# Altium footprint library ICs.PcbLib: 109 footprints (part 3 of 7)
Each footprint in its own frame and in the unit in brackets; x right, y up, seen from the top. Pads: shape width x height; smd on the part's side, far side on the other; paste and mask are expansions set on the pad; w line width, h text height; cw(c..) or ccw(c..) is an arc to the next point about the centre after c.
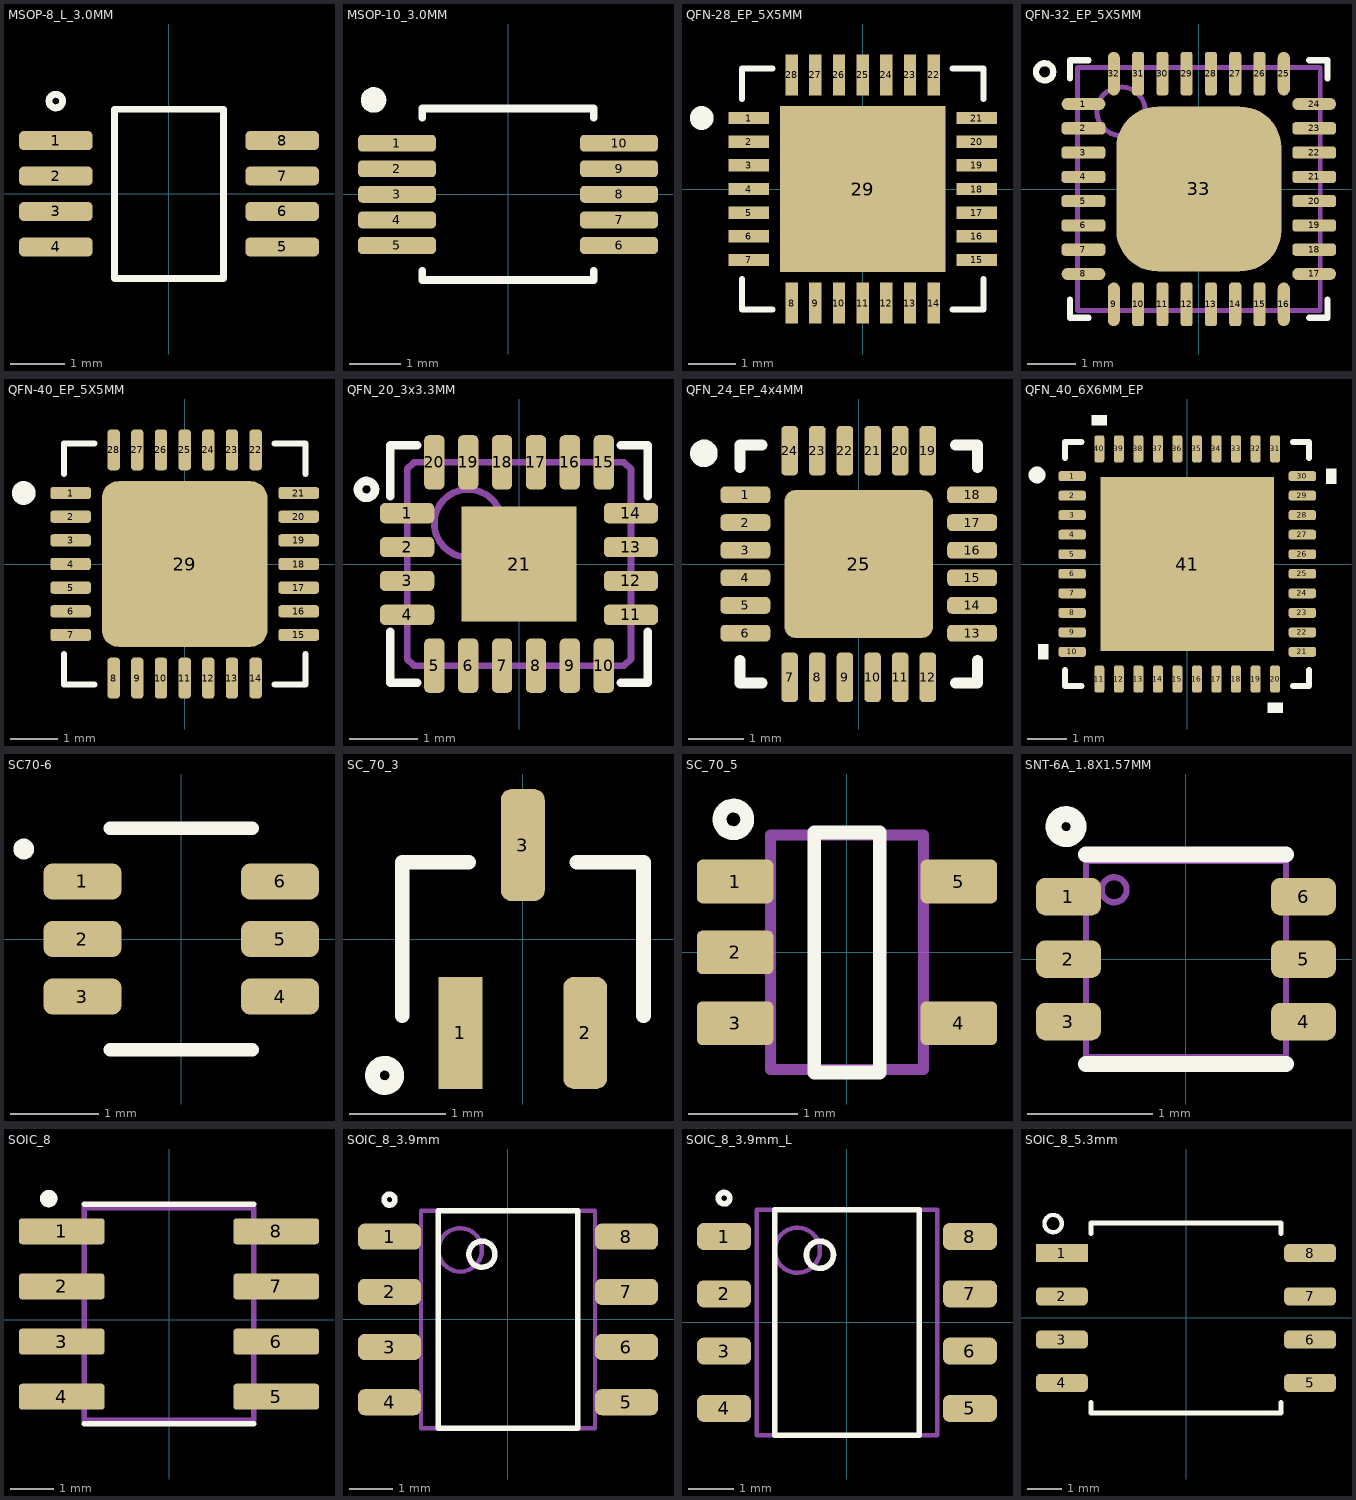
[diagram p2: the footprints below, top view; thin cyan lines are the x and y axes]

## MSOP-8_L_3.0MM [mm] "8-VSSOP, 8-TSSOP /  20191119/J-P.Vargas.A"
pads (8):
  rrect50% 1.35x0.35 smd: 1(-2.075,0.975) 2(-2.075,0.325) 3(-2.075,-0.325) 4(-2.075,-0.975) 5(2.075,-0.975) 6(2.075,-0.325) 7(2.075,0.325) 8(2.075,0.975)
Top Overlay:
  circle w0.127: c-2.075,1.7 r0.125
  lines w0.127: -1,-1.55 -1,1.55 1,1.55 1,-1.55 -1,-1.55
3D body: height 1.1, standoff 0.05, extent -1.55,-1.55 1.55,1.55

## MSOP-10_3.0MM [mil] "20221118/J-A.Sepulveda"
pads (10):
  rrect50% 60x13 smd: 1(-85.5,39.37) 2(-85.5,19.68) 3(-85.5,0) 4(-85.5,-19.68) 5(-85.5,-39.37) 6(85.5,-39.37) 7(85.5,-19.68) 8(85.5,0) 9(85.5,19.68) 10(85.5,39.37)
Top Overlay:
  circle w9.84: c-103.53,72.65 r4.92
  lines w6: -66,-58.97 -66,-66 66,-66 66,-58.97 ; -66,58.97 -66,66 66,66 66,58.97
3D body "RM_10_ADI.step": height 43.11, standoff 0, extent -101.5,-60.98 101.5,60.98

## QFN-28_EP_5X5MM [mm] "20210806/M-C.Calderon"
pads (29):
  rect 0.86x0.26 smd: 1(-2.41,1.5) 2(-2.41,1) 3(-2.41,0.5) 4(-2.41,0) 5(-2.41,-0.5) 6(-2.41,-1) 7(-2.41,-1.5) 15(2.41,-1.5) 16(2.41,-1) 17(2.41,-0.5) 18(2.41,0) 19(2.41,0.5) 20(2.41,1) 21(2.41,1.5)
  rect 0.26x0.86 smd: 8(-1.5,-2.41) 9(-1,-2.41) 10(-0.5,-2.41) 11(0,-2.41) 12(0.5,-2.41) 13(1,-2.41) 14(1.5,-2.41) 22(1.5,2.41) 23(1,2.41) 24(0.5,2.41) 25(0,2.41) 26(-0.5,2.41) 27(-1,2.41) 28(-1.5,2.41)
  rect 3.5x3.5 smd paste-3: 29(0,0)
Top Overlay:
  circle w0.3: c-3.4,1.5 r0.1
  lines w0.127: -2.55,-1.9 -2.55,-2.55 -1.9,-2.55 ; -2.55,1.9 -2.55,2.55 -1.9,2.55 ; 1.9,-2.55 2.55,-2.55 2.55,-1.9 ; 1.9,2.55 2.55,2.55 2.55,1.9
Top Paste:
  region: 1.41,-1.41 0.17,-1.41 0.17,-0.17 1.41,-0.17
  region: -0.17,-1.41 -1.41,-1.41 -1.41,-0.17 -0.17,-0.17
  region: -0.17,0.17 -1.41,0.17 -1.41,1.41 -0.17,1.41
  region: 1.41,0.17 0.17,0.17 0.17,1.41 1.41,1.41
3D body "User Library-QFN28.step": height 0.91, standoff 0.01, extent -2.52,-2.52 2.52,2.52

## QFN-32_EP_5X5MM [mm] "32-VFQFN Exposed Pad/20200714/N-A.Potosi"
pads (33):
  oval 0.9x0.25 smd: 1(-2.375,1.75) 8(-2.375,-1.75) 17(2.375,-1.75) 24(2.375,1.75)
  rrect50% 0.9x0.25 smd: 2(-2.375,1.25) 3(-2.375,0.75) 4(-2.375,0.25) 5(-2.375,-0.25) 6(-2.375,-0.75) 7(-2.375,-1.25) 18(2.375,-1.25) 19(2.375,-0.75) 20(2.375,-0.25) 21(2.375,0.25) 22(2.375,0.75) 23(2.375,1.25)
  oval 0.25x0.9 smd: 9(-1.75,-2.375) 16(1.75,-2.375) 25(1.75,2.375) 32(-1.75,2.375)
  rrect50% 0.25x0.9 smd: 10(-1.25,-2.375) 11(-0.75,-2.375) 12(-0.25,-2.375) 13(0.25,-2.375) 14(0.75,-2.375) 15(1.25,-2.375) 26(1.25,2.375) 27(0.75,2.375) 28(0.25,2.375) 29(-0.25,2.375) 30(-0.75,2.375) 31(-1.25,2.375)
  rrect50% 3.4x3.4 smd: 33(0,0)
Top Overlay:
  circle w0.127: c-3.175,2.413 r0.178
  lines w0.127: -2.65,-2.275 -2.65,-2.65 -2.275,-2.65 ; -2.65,2.275 -2.65,2.65 -2.275,2.65 ; 2.275,-2.65 2.65,-2.65 2.65,-2.275 ; 2.275,2.65 2.65,2.65 2.65,2.275
Mechanical 1:
  circle w0.1: c-1.6,1.6 r0.5
  lines w0.1: -2.5,-2.5 2.5,-2.5 2.5,2.5 -2.5,2.5 -2.5,-2.5
3D body: height 1, standoff 0.01, extent -2.5,-2.5 2.5,2.5

## QFN-40_EP_5X5MM [mm] "20210806/M-C.Calderon"
pads (29):
  rrect50% 0.86x0.26 smd: 1(-2.41,1.5) 2(-2.41,1) 3(-2.41,0.5) 4(-2.41,0) 5(-2.41,-0.5) 6(-2.41,-1) 7(-2.41,-1.5) 15(2.41,-1.5) 16(2.41,-1) 17(2.41,-0.5) 18(2.41,0) 19(2.41,0.5) 20(2.41,1) 21(2.41,1.5)
  rrect50% 0.26x0.86 smd: 8(-1.5,-2.41) 9(-1,-2.41) 10(-0.5,-2.41) 11(0,-2.41) 12(0.5,-2.41) 13(1,-2.41) 14(1.5,-2.41) 22(1.5,2.41) 23(1,2.41) 24(0.5,2.41) 25(0,2.41) 26(-0.5,2.41) 27(-1,2.41) 28(-1.5,2.41)
  rrect20% 3.5x3.5 smd paste-3: 29(0,0)
Top Overlay:
  circle w0.3: c-3.4,1.5 r0.1
  lines w0.127: -2.55,-1.9 -2.55,-2.55 -1.9,-2.55 ; -2.55,1.9 -2.55,2.55 -1.9,2.55 ; 1.9,-2.55 2.55,-2.55 2.55,-1.9 ; 1.9,2.55 2.55,2.55 2.55,1.9
Top Paste:
  region: 1.41,-1.41 0.17,-1.41 0.17,-0.17 1.41,-0.17
  region: -0.17,-1.41 -1.41,-1.41 -1.41,-0.17 -0.17,-0.17
  region: -0.17,0.17 -1.41,0.17 -1.41,1.41 -0.17,1.41
  region: 1.41,0.17 0.17,0.17 0.17,1.41 1.41,1.41
3D body "User Library-QFN28.step": height 0.91, standoff 0.01, extent -2.52,-2.52 2.52,2.52

## QFN_20_3x3.3MM [mm] "/20200727/M-C.Calderon"
height 0.9
pads (21):
  rrect50% 0.8x0.3 smd paste-0.051 mask+0.05: 1(-1.65,0.75) 2(-1.65,0.25) 3(-1.65,-0.25) 4(-1.65,-0.75) 11(1.65,-0.75) 12(1.65,-0.25) 13(1.65,0.25) 14(1.65,0.75)
  rrect50% 0.3x0.8 smd paste-0.051 mask+0.05: 5(-1.25,-1.5) 6(-0.75,-1.5) 7(-0.25,-1.5) 8(0.25,-1.5) 9(0.75,-1.5) 10(1.25,-1.5) 15(1.25,1.5) 16(0.75,1.5) 17(0.25,1.5) 18(-0.25,1.5) 19(-0.75,1.5) 20(-1.25,1.5)
  rect 1.7x1.7 smd paste-0.178 mask+0.05: 21(0,0)
Top Overlay:
  circle w0.127: c-2.25,1.1 r0.125
  lines w0.127: -1.9,-1 -1.9,-1.75 -1.5,-1.75 ; -1.9,1 -1.9,1.75 -1.5,1.75 ; 1.5,-1.75 1.9,-1.75 1.9,-1 ; 1.5,1.75 1.9,1.75 1.9,1
Mechanical 1:
  circle w0.1: c-0.75,0.6 r0.5
  lines w0.1: -1.65,-1.4 -1.55,-1.5 1.55,-1.5 1.65,-1.4 1.65,1.4 1.55,1.5 -1.55,1.5 -1.65,1.4 -1.65,-1.4
3D body: height 0.9, standoff 0.1, extent -1.65,-1.5 1.65,1.5

## QFN_24_EP_4x4MM [mm] "24-WFQFN_EP/20210809/V-A.Patino"
height 0.8
pads (25):
  rrect50% 0.9x0.3 smd: 1(-2.05,1.25) 2(-2.05,0.75) 3(-2.05,0.25) 4(-2.05,-0.25) 5(-2.05,-0.75) 6(-2.05,-1.25) 13(2.05,-1.25) 14(2.05,-0.75) 15(2.05,-0.25) 16(2.05,0.25) 17(2.05,0.75) 18(2.05,1.25)
  rrect50% 0.3x0.9 smd: 7(-1.25,-2.05) 8(-0.75,-2.05) 9(-0.25,-2.05) 10(0.25,-2.05) 11(0.75,-2.05) 12(1.25,-2.05) 19(1.25,2.05) 20(0.75,2.05) 21(0.25,2.05) 22(-0.25,2.05) 23(-0.75,2.05) 24(-1.25,2.05)
  rrect15% 2.68x2.68 smd: 25(0,0)
Top Overlay:
  circle w0.25: c-2.8,2 r0.125
  lines w0.2: -2.15,-1.75 -2.15,-2.15 -1.75,-2.15 ; -2.15,1.75 -2.15,2.15 -1.75,2.15 ; 1.75,-2.15 2.15,-2.15 2.15,-1.75 ; 1.75,2.15 2.15,2.15 2.15,1.75
3D body: height 0.8, standoff 0, extent -2,-2 2,2

## QFN_40_6X6MM_EP [mm] "20220422 / E.Naranjo"
pads (41):
  rrect50% 0.7x0.254 smd: 1(-2.946,2.25) 2(-2.946,1.75) 3(-2.946,1.25) 4(-2.946,0.75) 5(-2.946,0.25) 6(-2.946,-0.25) 7(-2.946,-0.75) 8(-2.946,-1.25) 9(-2.946,-1.75) 10(-2.946,-2.25) 21(2.946,-2.25) 22(2.946,-1.75) 23(2.946,-1.25) 24(2.946,-0.75) 25(2.946,-0.25) 26(2.946,0.25) 27(2.946,0.75) 28(2.946,1.25) 29(2.946,1.75) 30(2.946,2.25)
  rrect50% 0.254x0.7 smd: 11(-2.25,-2.946) 12(-1.75,-2.946) 13(-1.25,-2.946) 14(-0.75,-2.946) 15(-0.25,-2.946) 16(0.25,-2.946) 17(0.75,-2.946) 18(1.25,-2.946) 19(1.75,-2.946) 20(2.25,-2.946) 31(2.25,2.946) 32(1.75,2.946) 33(1.25,2.946) 34(0.75,2.946) 35(0.25,2.946) 36(-0.25,2.946) 37(-0.75,2.946) 38(-1.25,2.946) 39(-1.75,2.946) 40(-2.25,2.946)
  rect 4.445x4.445 smd paste-2.21 mask+0: 41(0,0)
Top Overlay:
  circle w0.381: c-3.846,2.281 r0.025
  region: -3.556,-2.06 -3.81,-2.06 -3.81,-2.441 -3.556,-2.441
  region: 2.441,-3.556 2.06,-3.556 2.06,-3.81 2.441,-3.81
  region: 3.556,2.441 3.81,2.441 3.81,2.06 3.556,2.06
  region: -2.06,3.556 -2.441,3.556 -2.441,3.81 -2.06,3.81
  lines w0.152: -3.124,-2.71 -3.124,-3.124 -2.71,-3.124 ; -3.124,2.71 -3.124,3.124 -2.71,3.124 ; 2.71,-3.124 3.124,-3.124 3.124,-2.71 ; 2.71,3.124 3.124,3.124 3.124,2.71
Top Paste:
  region: -0.841,2.123 -2.123,2.123 -2.123,0.841 -0.841,0.841
  region: -0.841,0.641 -2.123,0.641 -2.123,-0.641 -0.841,-0.641
  region: -0.841,-0.841 -2.123,-0.841 -2.123,-2.123 -0.841,-2.123
  region: 0.641,2.123 -0.641,2.123 -0.641,0.841 0.641,0.841
  region: 0.641,0.641 -0.641,0.641 -0.641,-0.641 0.641,-0.641
  region: 0.641,-0.841 -0.641,-0.841 -0.641,-2.123 0.641,-2.123
  region: 2.123,2.123 0.841,2.123 0.841,0.841 2.123,0.841
  region: 2.123,0.641 0.841,0.641 0.841,-0.641 2.123,-0.641
  region: 2.123,-0.841 0.841,-0.841 0.841,-2.123 2.123,-2.123
3D body "QFN40_6x6MC_MCH.step": height 1, standoff 0, extent -2.997,-2.997 2.997,2.997

## SC70-6 [mil] "TSSOP6 SC-88 SOT-363 / 20220519 / E.Naranjo"
pads (6):
  rrect50% 34.67x16 smd: 1(-43.91,25.59) 2(-43.91,0) 3(-43.91,-25.59) 4(43.91,-25.59) 5(43.91,0) 6(43.91,25.59)
Top Overlay:
  circle w5: c-70,40 r2.14
  lines w6: -31.57,-49.29 31.57,-49.29 ; -31.57,49.29 31.57,49.29
3D body "SC70-6_MC_MCH.step": height 43.43, standoff 0, extent -47.24,-44.29 47.25,44.29

## SC_70_3 [mil] "SOT-323 / 20230810/ N-A.Potosi"
height 43.31
pads (3):
  rect 18x46 smd: 1(-25.59,-38.5)
  rrect50% 18x46 smd: 2(25.59,-38.5) 3(0,38.5)
Top Overlay:
  circle w6: c-56.66,-55.93 r5
  lines w6: -49.5,-31.5 -49.5,31.5 -22.1,31.5 ; 22.1,31.5 49.5,31.5 49.5,-31.5
3D body "SC-70_C3_MCH.step": height 43.11, standoff 0, extent -44.49,-47.52 44.49,47.52

## SC_70_5 [mm] "SC-70-5, TSSOP-5, SOT-353 / 20190225 / C-A.Serna.A"
height 1.1
pads (5):
  rrect25% 0.7x0.4 smd: 1(-1.025,0.65) 2(-1.025,0) 3(-1.025,-0.65) 4(1.025,-0.65) 5(1.025,0.65)
Top Overlay:
  circle w0.127: c-1.041,1.219 r0.127
  lines w0.127: -0.3,-1.1 0.3,-1.1 0.3,1.1 -0.3,1.1 -0.3,-1.1
Mechanical 1:
  lines w0.1: -0.7,-1.075 0.7,-1.075 0.7,1.075 -0.7,1.075 -0.7,-1.075
3D body "DCK0005AakaMAA05A.stp": height 0.94, standoff -0.01, extent -1.14,-1 1.14,1

## SNT-6A_1.8X1.57MM [mm] "20220103 / A-F.Romo"
pads (6):
  rrect50% 0.52x0.3 smd: 1(-0.94,0.5) 2(-0.94,0) 3(-0.94,-0.5) 4(0.94,-0.5) 5(0.94,0) 6(0.94,0.5)
Top Overlay:
  circle w0.127: c-0.96,1.06 r0.1
  lines w0.127: -0.8,-0.838 0.8,-0.838 ; -0.8,0.838 0.8,0.838
Mechanical 1:
  circle w0.05: c-0.575,0.555 r0.1
  lines w0.05: -0.8,-0.785 0.8,-0.785 0.8,0.785 -0.8,0.785 -0.8,-0.785
3D body "S-8471AAA-I6T1U.stp": height 0.5, standoff 0, extent -0.9,-0.785 0.9,0.785

## SOIC_8 [mm] "/ 20190225 / C-A.Serna.A"
pads (8):
  rrect25% 1.97x0.6 smd: 1(-2.47,2.032) 2(-2.47,0.762) 3(-2.47,-0.508) 4(-2.47,-1.778) 5(2.47,-1.778) 6(2.47,-0.508) 7(2.47,0.762) 8(2.47,2.032)
Top Overlay:
  circle w0.2: c-2.771,2.785 r0.1
  lines w0.127: -1.95,-2.398 1.95,-2.398 ; -1.95,2.652 1.95,2.652
Mechanical 13:
  circle w0.2: c-2.771,2.785 r0.1
  lines w0.127: -1.95,-2.325 -1.95,2.579 1.95,2.579 1.95,-2.325 -1.95,-2.325
3D body "LM358BAIDR.STEP": height 1.75, standoff 0, extent -3.041,-2.314 2.953,2.588

## SOIC_8_3.9mm [mm] "/ 20190225 / C-A.Serna.A"
pads (8):
  rrect50% 1.45x0.6 smd: 1(-2.725,1.905) 2(-2.725,0.635) 3(-2.725,-0.635) 4(-2.725,-1.905) 5(2.725,-1.905) 6(2.725,-0.635) 7(2.725,0.635) 8(2.725,1.905)
Top Overlay:
  circle w0.127: c-2.725,2.755 r0.125
  circle w0.127: c-0.6,1.5 r0.3
  lines w0.127: -1.6,-2.5 -1.6,2.5 1.6,2.5 1.6,-2.5 -1.6,-2.5
Mechanical 1:
  circle w0.1: c-1.1,1.6 r0.5
  lines w0.1: -2,-2.5 2,-2.5 2,2.5 -2,2.5 -2,-2.5
3D body "SOIC127P600X173-8N.step": height 1.73, standoff 0, extent -3.01,-2.5 3.01,2.5

## SOIC_8_3.9mm_L [mm] "/ 20190702 / J-P.Vargas.A"
pads (8):
  rrect50% 1.2x0.6 smd: 1(-2.725,1.905) 2(-2.725,0.635) 3(-2.725,-0.635) 4(-2.725,-1.905) 5(2.725,-1.905) 6(2.725,-0.635) 7(2.725,0.635) 8(2.725,1.905)
Top Overlay:
  circle w0.127: c-0.6,1.5 r0.3
  circle w0.127: c-2.725,2.755 r0.125
  lines w0.127: -1.6,-2.5 1.6,-2.5 1.6,2.5 -1.6,2.5 -1.6,-2.5
Mechanical 1:
  circle w0.1: c-1.1,1.6 r0.5
  lines w0.1: -2,-2.5 -2,2.5 2,2.5 2,-2.5 -2,-2.5
3D body "SOIC127P600X173-8N.step": height 1.73, standoff 0, extent -3.01,-2.5 3.01,2.5

## SOIC_8_5.3mm [mil] "/ 20230822 /N-A.Potosi"
pads (8):
  rect 60x21 smd: 1(-143.5,75)
  rrect50% 60x21 smd: 2(-143.5,25) 3(-143.5,-25) 4(-143.5,-75) 5(143.5,-75) 6(143.5,-25) 7(143.5,25) 8(143.5,75)
Top Overlay:
  circle w5: c-153.65,109.21 r10.02
  lines w6: -110,-98.12 -110,-110 110,-110 110,-98.12 ; -110,98.12 -110,110 110,110 110,98.12
3D body "SOIC_128JVSIM_WIN.step": height 85.12, standoff 0, extent -159.49,-105 159.49,105